# EAGLE library part TC2050 (library con-cortex)
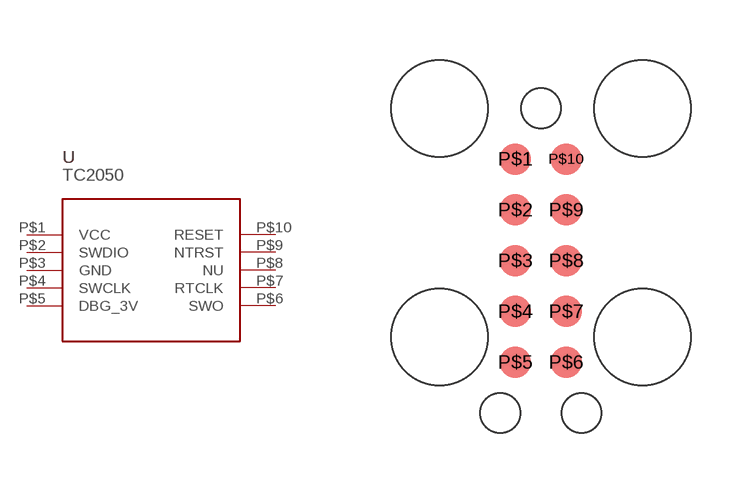
[diagram p3: symbol with the pads of TC2050; footprint TC2050]

Designator prefix -

## TC2050  [TC2050]
P$1  VCC
P$2  SWDIO
P$3  GND
P$4  SWCLK
P$5  DBG_3V
P$6  SWO
P$7  RTCLK
P$8  NU
P$9  NTRST
P$10  RESET

## Footprint TC2050 (pad centres in mm)
smd 0.787 x 0.787: P$1 -0.635,-1.27; P$2 -0.635,-2.54; P$3 -0.635,-3.81; P$4 -0.635,-5.08; P$5 -0.635,-6.35; P$6 0.635,-6.35; P$7 0.635,-5.08; P$8 0.635,-3.81; P$9 0.635,-2.54; P$10 0.635,-1.27
hole 0.991 at 0,0
hole 0.991 at -1.016,-7.62
hole 0.991 at 1.016,-7.62
hole 2.413 at 2.54,0
hole 2.413 at -2.54,0
hole 2.413 at -2.54,-5.715
hole 2.413 at 2.54,-5.715